# Altium footprint library SOT-623F.PcbLib: 1 footprints
Each footprint in its own frame and in the unit in brackets; x right, y up, seen from the top. Pads: shape width x height; smd on the part's side, far side on the other; paste and mask are expansions set on the pad; w line width, h text height; cw(c..) or ccw(c..) is an arc to the next point about the centre after c.
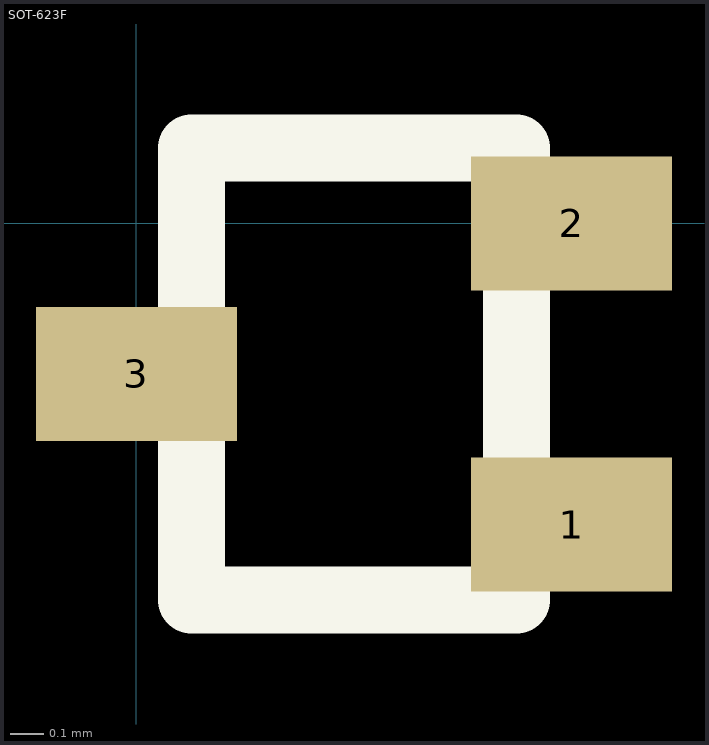
[diagram p0: the footprint, top view; thin cyan lines are the x and y axes]

## SOT-623F [mm]
pads (3):
  rect 0.6x0.4 smd: 1(1.3,-0.9) 2(1.3,0) 3(0,-0.45)
Top Overlay:
  lines w0.2: 0.537,0.225 1.135,0.225 1.135,-1.125 0.165,-1.125 0.165,0.225 0.762,0.225